# Altium integrated library Linear Technology PMIC-Switching Reg LT1074-LT8705.IntLib: 2252 symbols (part 21 of 124)
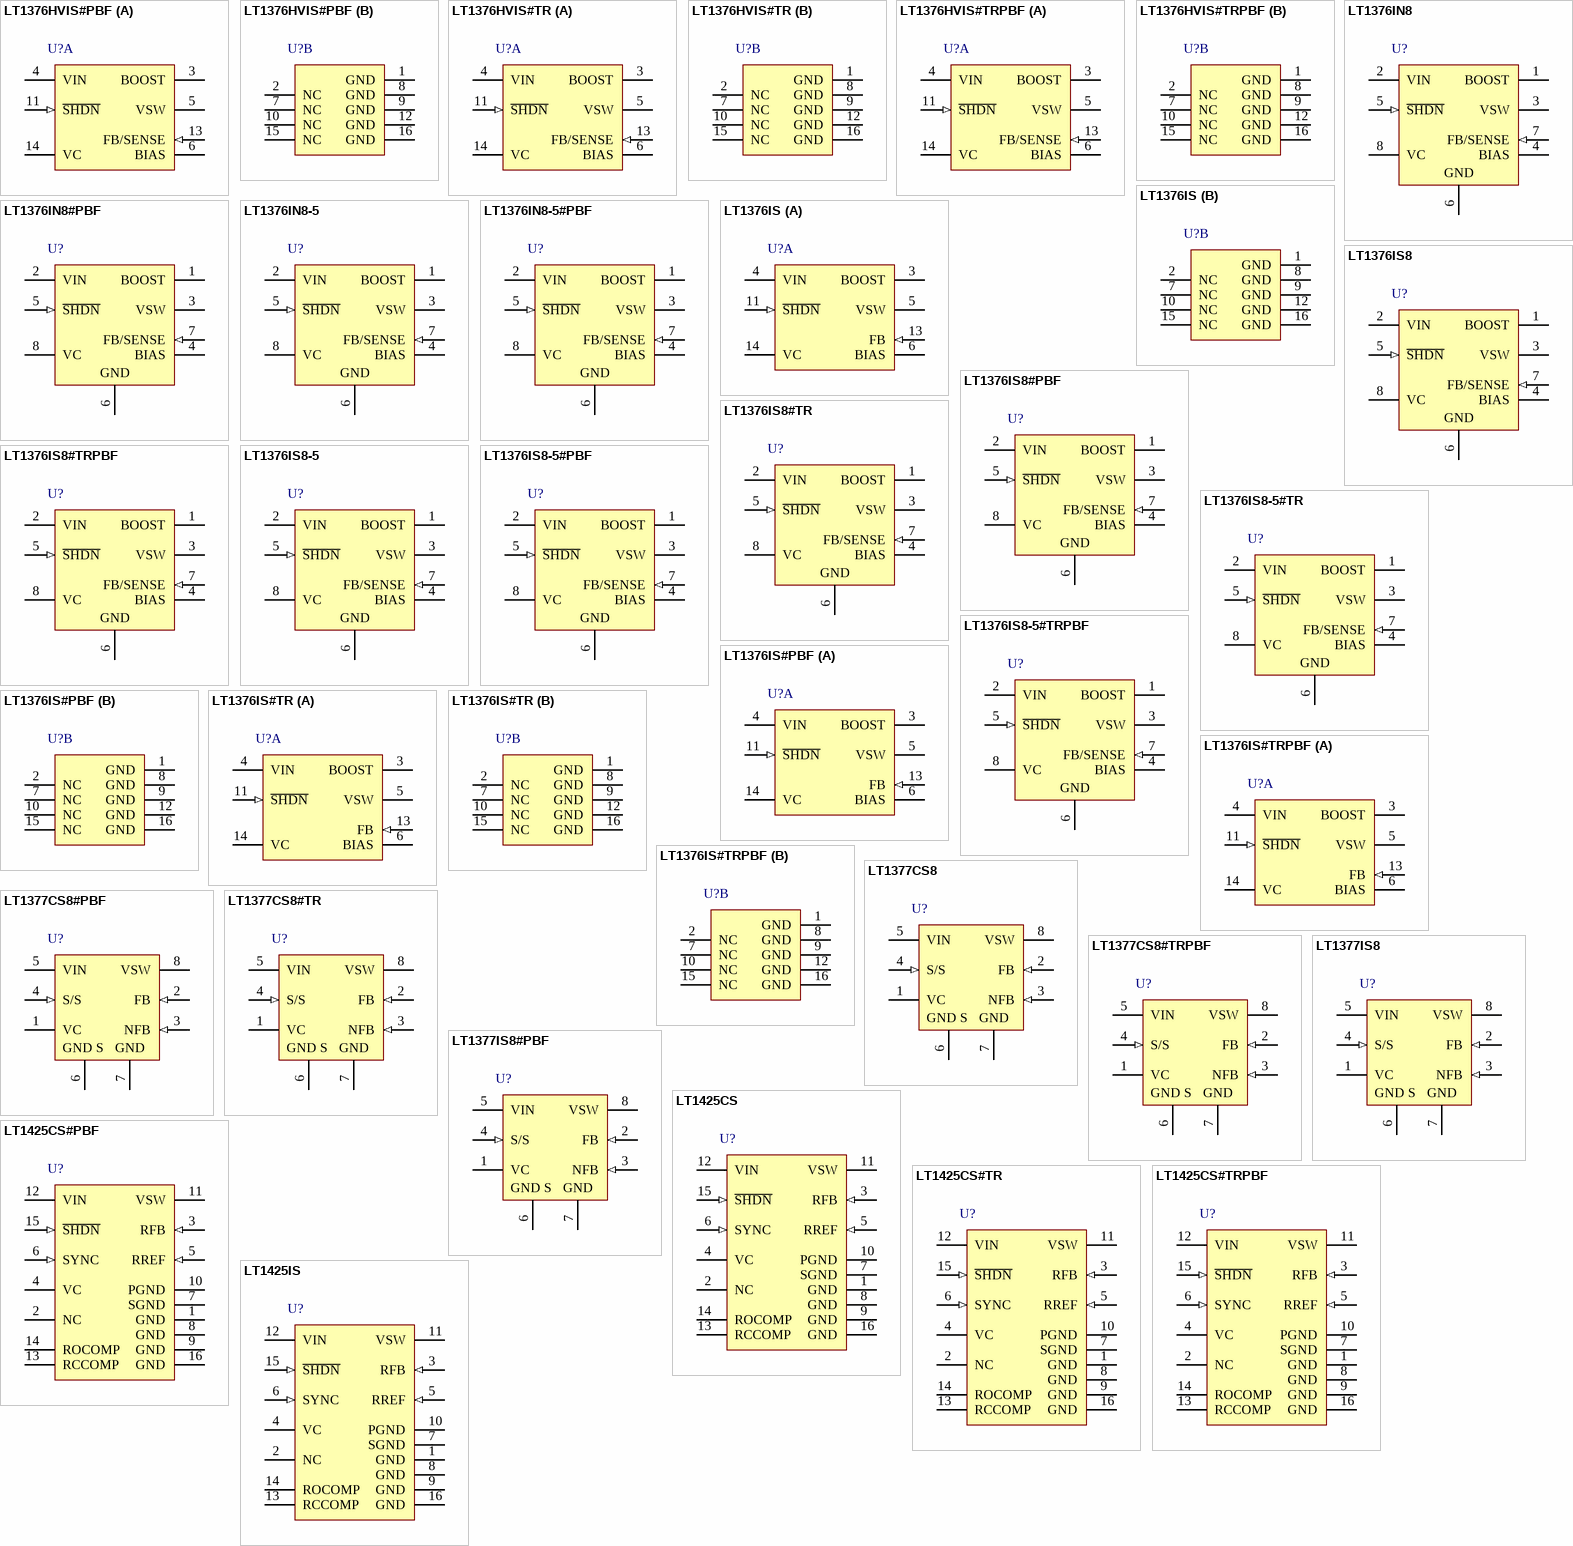
[diagram p91: symbols LT1376HVIS#PBF to LT1425IS]

## LT1376IS8-5#TRPBF
designator U?
1.5 A, 500 kHz Step-Down Switching Regulator, 8-pin SOIC (S8-8), -40 to 125 degC, Pb-Free, Tape and Reel; Manufacturer: Linear Technology; PartNumber: LT1376IS8-5#TRPBF; Number of Outputs: 1; PackageReference: S8-8; PackageDescription: 8-Pin Plastic Small Outline (Narrow .150 Inch), Body 4.9 x 3.9 mm, Pitch 1.27 mm; Supplier 1: Digi-Key; Supplier Part Number 1: LT1376IS8-5#TRPBF-ND; RoHS: TRUE
footprint LT-S8-8_N (SOIC, 8-Leads, Body 5x4mm, Pitch 1.27mm, IPC Medium Density)
footprint LT-S8-8_L (SOIC, 8-Leads, Body 5x4mm, Pitch 1.27mm, IPC High Density)
footprint LT-S8-8_M (SOIC, 8-Leads, Body 5x4mm, Pitch 1.27mm, IPC Low Density)
pins: 1 BOOST "The BOOST pin is used to provide a drive voltage, higher than the input voltage, to the internal bipolar NPN power switch. Without this added voltage, the typical switch voltage loss would be about 1.5V. The additional boost (See Datasheet)", 2 VIN (power) "This is the collector of the on-chip power NPN switch. This pin powers the internal circuitry and internal regulator when the BIAS pin is not present. At NPN switch on and off, high dl/dt edges occur on this pin. Keep the (See Datasheet)", 3 VSW (power) "The switch pin is the emitter of the on-chip power NPN switch. It is driven up to the input pin voltage during switch on time. Inductor current drives the switch pin negative during switch off time. Negative voltage is (See Datasheet)", 4 BIAS (power) "The BIAS pin is used to improve efficiency when operating at higher input voltages and light load current. Connecting this pin to the regulated output voltage forces most of the internal circuitry to draw its operating (See Datasheet)", 5 ~{SHDN} (in) "The shutdown pin is used to turn off the regulator and to reduce input drain current to a few microamperes. Actually, this pin has two separate thresholds, one at 2.38V to disable switching, and a second at 0.4V to force (See Datasheet)", 6 GND (power) "The GND pin connection needs consideration for two reasons. First, it acts as the reference for the regulated output, so load regulation will suffer if the “ground?end of the load is not at the same voltage as the (See Datasheet)", 7 FB/SENSE (in) "The feedback pin is used to set output voltage, using an external voltage divider that generates 2.42V at the pin with the desired output voltage. The fixed voltage (-5) parts have the divider included on the chip, and the (See Datasheet)", 8 VC "The VC pin is the output of the error amplifier and the input of the peak switch current comparator. It is normally used for frequency compensation, but can do double duty as a current clamp or control loop override. This (See Datasheet)"

## LT1376IS#PBF
designator U?
1.5 A, 500 kHz Step-Down Switching Regulator, 16-pin SOP (S-16), -40 to 125 degC, Pb-Free; Manufacturer: Linear Technology; PartNumber: LT1376IS#PBF; Number of Outputs: 1; PackageReference: S-16; PackageDescription: 16-Pin Plastic Small Outline, Body 9.9 x 3.9 mm, Pitch 1.27 mm; Supplier 1: Digi-Key; Supplier Part Number 1: LT1376IS#PBF-ND; RoHS: TRUE
footprint LT-S-16_N (SOP, 16-Leads, Body 10x4mm, Pitch 1.27mm, IPC Medium Density)
footprint LT-S-16_L (SOP, 16-Leads, Body 10x4mm, Pitch 1.27mm, IPC High Density)
footprint LT-S-16_M (SOP, 16-Leads, Body 10x4mm, Pitch 1.27mm, IPC Low Density)
part A pins: 3 BOOST "The BOOST pin is used to provide a drive voltage, higher than the input voltage, to the internal bipolar NPN power switch. Without this added voltage, the typical switch voltage loss would be about 1.5V. The additional boost (See Datasheet)", 4 VIN (power) "This is the collector of the on-chip power NPN switch. This pin powers the internal circuitry and internal regulator when the BIAS pin is not present. At NPN switch on and off, high dl/dt edges occur on this pin. Keep the (See Datasheet)", 5 VSW (power) "The switch pin is the emitter of the on-chip power NPN switch. It is driven up to the input pin voltage during switch on time. Inductor current drives the switch pin negative during switch off time. Negative voltage is (See Datasheet)", 6 BIAS (power) "The BIAS pin is used to improve efficiency when operating at higher input voltages and light load current. Connecting this pin to the regulated output voltage forces most of the internal circuitry to draw its operating (See Datasheet)", 11 ~{SHDN} (in) "The shutdown pin is used to turn off the regulator and to reduce input drain current to a few microamperes. Actually, this pin has two separate thresholds, one at 2.38V to disable switching, and a second at 0.4V to force (See Datasheet)", 13 FB (in) "The feedback pin is used to set output voltage, using an external voltage divider that generates 2.42V at the pin with the desired output voltage. The fixed voltage (-5) parts have the divider included on the chip, and the (See Datasheet)", 14 VC "The VC pin is the output of the error amplifier and the input of the peak switch current comparator. It is normally used for frequency compensation, but can do double duty as a current clamp or control loop override. This (See Datasheet)"
part B pins: 1 GND (power) "The GND pin connection needs consideration for two reasons. First, it acts as the reference for the regulated output, so load regulation will suffer if the “ground?end of the load is not at the same voltage as the (See Datasheet)", 2 NC, 7 NC, 8 GND (power) "The GND pin connection needs consideration for two reasons. First, it acts as the reference for the regulated output, so load regulation will suffer if the “ground?end of the load is not at the same voltage as the (See Datasheet)", 9 GND (power) "The GND pin connection needs consideration for two reasons. First, it acts as the reference for the regulated output, so load regulation will suffer if the “ground?end of the load is not at the same voltage as the (See Datasheet)", 10 NC, 12 GND (power) "The GND pin connection needs consideration for two reasons. First, it acts as the reference for the regulated output, so load regulation will suffer if the “ground?end of the load is not at the same voltage as the (See Datasheet)", 15 NC, 16 GND (power) "The GND pin connection needs consideration for two reasons. First, it acts as the reference for the regulated output, so load regulation will suffer if the “ground?end of the load is not at the same voltage as the (See Datasheet)"

## LT1376IS#TR
designator U?
1.5 A, 500 kHz Step-Down Switching Regulator, 16-pin SOP (S-16), -40 to 125 degC, Tape and Reel; Manufacturer: Linear Technology; PartNumber: LT1376IS#TR; Number of Outputs: 1; PackageReference: S-16; PackageDescription: 16-Pin Plastic Small Outline, Body 9.9 x 3.9 mm, Pitch 1.27 mm; Supplier 1: Digi-Key; Supplier Part Number 1: LT1376IS#TR-ND; RoHS: FALSE
footprint LT-S-16_N (SOP, 16-Leads, Body 10x4mm, Pitch 1.27mm, IPC Medium Density)
footprint LT-S-16_L (SOP, 16-Leads, Body 10x4mm, Pitch 1.27mm, IPC High Density)
footprint LT-S-16_M (SOP, 16-Leads, Body 10x4mm, Pitch 1.27mm, IPC Low Density)
part A pins: 3 BOOST "The BOOST pin is used to provide a drive voltage, higher than the input voltage, to the internal bipolar NPN power switch. Without this added voltage, the typical switch voltage loss would be about 1.5V. The additional boost (See Datasheet)", 4 VIN (power) "This is the collector of the on-chip power NPN switch. This pin powers the internal circuitry and internal regulator when the BIAS pin is not present. At NPN switch on and off, high dl/dt edges occur on this pin. Keep the (See Datasheet)", 5 VSW (power) "The switch pin is the emitter of the on-chip power NPN switch. It is driven up to the input pin voltage during switch on time. Inductor current drives the switch pin negative during switch off time. Negative voltage is (See Datasheet)", 6 BIAS (power) "The BIAS pin is used to improve efficiency when operating at higher input voltages and light load current. Connecting this pin to the regulated output voltage forces most of the internal circuitry to draw its operating (See Datasheet)", 11 ~{SHDN} (in) "The shutdown pin is used to turn off the regulator and to reduce input drain current to a few microamperes. Actually, this pin has two separate thresholds, one at 2.38V to disable switching, and a second at 0.4V to force (See Datasheet)", 13 FB (in) "The feedback pin is used to set output voltage, using an external voltage divider that generates 2.42V at the pin with the desired output voltage. The fixed voltage (-5) parts have the divider included on the chip, and the (See Datasheet)", 14 VC "The VC pin is the output of the error amplifier and the input of the peak switch current comparator. It is normally used for frequency compensation, but can do double duty as a current clamp or control loop override. This (See Datasheet)"
part B pins: 1 GND (power) "The GND pin connection needs consideration for two reasons. First, it acts as the reference for the regulated output, so load regulation will suffer if the “ground?end of the load is not at the same voltage as the (See Datasheet)", 2 NC, 7 NC, 8 GND (power) "The GND pin connection needs consideration for two reasons. First, it acts as the reference for the regulated output, so load regulation will suffer if the “ground?end of the load is not at the same voltage as the (See Datasheet)", 9 GND (power) "The GND pin connection needs consideration for two reasons. First, it acts as the reference for the regulated output, so load regulation will suffer if the “ground?end of the load is not at the same voltage as the (See Datasheet)", 10 NC, 12 GND (power) "The GND pin connection needs consideration for two reasons. First, it acts as the reference for the regulated output, so load regulation will suffer if the “ground?end of the load is not at the same voltage as the (See Datasheet)", 15 NC, 16 GND (power) "The GND pin connection needs consideration for two reasons. First, it acts as the reference for the regulated output, so load regulation will suffer if the “ground?end of the load is not at the same voltage as the (See Datasheet)"

## LT1376IS#TRPBF
designator U?
1.5 A, 500 kHz Step-Down Switching Regulator, 16-pin SOP (S-16), -40 to 125 degC, Pb-Free, Tape and Reel; Manufacturer: Linear Technology; PartNumber: LT1376IS#TRPBF; Number of Outputs: 1; PackageReference: S-16; PackageDescription: 16-Pin Plastic Small Outline, Body 9.9 x 3.9 mm, Pitch 1.27 mm; Supplier 1: Digi-Key; Supplier Part Number 1: LT1376IS#TRPBF-ND; RoHS: TRUE
footprint LT-S-16_N (SOP, 16-Leads, Body 10x4mm, Pitch 1.27mm, IPC Medium Density)
footprint LT-S-16_L (SOP, 16-Leads, Body 10x4mm, Pitch 1.27mm, IPC High Density)
footprint LT-S-16_M (SOP, 16-Leads, Body 10x4mm, Pitch 1.27mm, IPC Low Density)
part A pins: 3 BOOST "The BOOST pin is used to provide a drive voltage, higher than the input voltage, to the internal bipolar NPN power switch. Without this added voltage, the typical switch voltage loss would be about 1.5V. The additional boost (See Datasheet)", 4 VIN (power) "This is the collector of the on-chip power NPN switch. This pin powers the internal circuitry and internal regulator when the BIAS pin is not present. At NPN switch on and off, high dl/dt edges occur on this pin. Keep the (See Datasheet)", 5 VSW (power) "The switch pin is the emitter of the on-chip power NPN switch. It is driven up to the input pin voltage during switch on time. Inductor current drives the switch pin negative during switch off time. Negative voltage is (See Datasheet)", 6 BIAS (power) "The BIAS pin is used to improve efficiency when operating at higher input voltages and light load current. Connecting this pin to the regulated output voltage forces most of the internal circuitry to draw its operating (See Datasheet)", 11 ~{SHDN} (in) "The shutdown pin is used to turn off the regulator and to reduce input drain current to a few microamperes. Actually, this pin has two separate thresholds, one at 2.38V to disable switching, and a second at 0.4V to force (See Datasheet)", 13 FB (in) "The feedback pin is used to set output voltage, using an external voltage divider that generates 2.42V at the pin with the desired output voltage. The fixed voltage (-5) parts have the divider included on the chip, and the (See Datasheet)", 14 VC "The VC pin is the output of the error amplifier and the input of the peak switch current comparator. It is normally used for frequency compensation, but can do double duty as a current clamp or control loop override. This (See Datasheet)"
part B pins: 1 GND (power) "The GND pin connection needs consideration for two reasons. First, it acts as the reference for the regulated output, so load regulation will suffer if the “ground?end of the load is not at the same voltage as the (See Datasheet)", 2 NC, 7 NC, 8 GND (power) "The GND pin connection needs consideration for two reasons. First, it acts as the reference for the regulated output, so load regulation will suffer if the “ground?end of the load is not at the same voltage as the (See Datasheet)", 9 GND (power) "The GND pin connection needs consideration for two reasons. First, it acts as the reference for the regulated output, so load regulation will suffer if the “ground?end of the load is not at the same voltage as the (See Datasheet)", 10 NC, 12 GND (power) "The GND pin connection needs consideration for two reasons. First, it acts as the reference for the regulated output, so load regulation will suffer if the “ground?end of the load is not at the same voltage as the (See Datasheet)", 15 NC, 16 GND (power) "The GND pin connection needs consideration for two reasons. First, it acts as the reference for the regulated output, so load regulation will suffer if the “ground?end of the load is not at the same voltage as the (See Datasheet)"

## LT1377CS8
designator U?
1 MHz High Efficiency 1.5 A Switching Regulator, 8-pin SOIC (S8-8), 0 to 125 degC; Manufacturer: Linear Technology; PartNumber: LT1377CS8; Number of Outputs: 1; PackageReference: S8-8; PackageDescription: 8-Pin Plastic Small Outline (Narrow .150 Inch), Body 4.9 x 3.9 mm, Pitch 1.27 mm; Supplier 1: Digi-Key; Supplier Part Number 1: LT1377CS8-ND; RoHS: FALSE
footprint LT-S8-8_N (SOIC, 8-Leads, Body 5x4mm, Pitch 1.27mm, IPC Medium Density)
footprint LT-S8-8_L (SOIC, 8-Leads, Body 5x4mm, Pitch 1.27mm, IPC High Density)
footprint LT-S8-8_M (SOIC, 8-Leads, Body 5x4mm, Pitch 1.27mm, IPC Low Density)
pins: 1 VC "The compensation pin is used for frequency compensation, current limiting and soft start. It is the output of the error amplifier and the input of the current comparator. Loop frequency compensation can be performed with an (See Datasheet)", 2 FB (in) "The feedback pin is used for positive output voltage sensing and oscillator frequency shifting. It is the inverting input to the error amplifier. The noninverting input of this amplifier is internally tied to a 1.245V (See Datasheet)", 3 NFB (in), 4 S/S (in) "Shutdown and Synchronization Pin. The S/S pin is logic level compatible. Shutdown is active low and the shutdown threshold is typically 1.3V. For normal operation, pull the S/S pin high, tie it to VIN or leave it floating. (See Datasheet)", 5 VIN (power) "Bypass input supply pin with 10uF or more. The part goes into undervoltage lockout when VIN drops below 2.5V. Undervoltage lockout stops switching and pulls the VC pin low.", 6 GND S (power) "The ground sense pin is a ¡°clean¡± ground. The internal reference, error amplifier and negative feedback amplifier are referred to the ground sense pin. Connect it to ground. Keep the ground path connection to the out(See Datasheet)", 7 GND (power) "The ground pin is the emitter connection of the power switch and has large currents flowing through it. It should be connected directly to a good quality ground plane.", 8 VSW (power) "The switch pin is the collector of the power switch and has large currents flowing through it. Keep the traces to the switching components as short as possible to minimize radiation and voltage spikes."

## LT1377CS8#PBF
designator U?
1 MHz High Efficiency 1.5 A Switching Regulator, 8-pin SOIC (S8-8), 0 to 125 degC, Pb-Free; Manufacturer: Linear Technology; PartNumber: LT1377CS8#PBF; Number of Outputs: 1; PackageReference: S8-8; PackageDescription: 8-Pin Plastic Small Outline (Narrow .150 Inch), Body 4.9 x 3.9 mm, Pitch 1.27 mm; Supplier 1: Digi-Key; Supplier Part Number 1: LT1377CS8#PBF-ND; RoHS: TRUE
footprint LT-S8-8_N (SOIC, 8-Leads, Body 5x4mm, Pitch 1.27mm, IPC Medium Density)
footprint LT-S8-8_L (SOIC, 8-Leads, Body 5x4mm, Pitch 1.27mm, IPC High Density)
footprint LT-S8-8_M (SOIC, 8-Leads, Body 5x4mm, Pitch 1.27mm, IPC Low Density)
pins: 1 VC "The compensation pin is used for frequency compensation, current limiting and soft start. It is the output of the error amplifier and the input of the current comparator. Loop frequency compensation can be performed with an (See Datasheet)", 2 FB (in) "The feedback pin is used for positive output voltage sensing and oscillator frequency shifting. It is the inverting input to the error amplifier. The noninverting input of this amplifier is internally tied to a 1.245V (See Datasheet)", 3 NFB (in), 4 S/S (in) "Shutdown and Synchronization Pin. The S/S pin is logic level compatible. Shutdown is active low and the shutdown threshold is typically 1.3V. For normal operation, pull the S/S pin high, tie it to VIN or leave it floating. (See Datasheet)", 5 VIN (power) "Bypass input supply pin with 10uF or more. The part goes into undervoltage lockout when VIN drops below 2.5V. Undervoltage lockout stops switching and pulls the VC pin low.", 6 GND S (power) "The ground sense pin is a ¡°clean¡± ground. The internal reference, error amplifier and negative feedback amplifier are referred to the ground sense pin. Connect it to ground. Keep the ground path connection to the out(See Datasheet)", 7 GND (power) "The ground pin is the emitter connection of the power switch and has large currents flowing through it. It should be connected directly to a good quality ground plane.", 8 VSW (power) "The switch pin is the collector of the power switch and has large currents flowing through it. Keep the traces to the switching components as short as possible to minimize radiation and voltage spikes."

## LT1377CS8#TR
designator U?
1 MHz High Efficiency 1.5 A Switching Regulator, 8-pin SOIC (S8-8), 0 to 125 degC, Tape and Reel; Manufacturer: Linear Technology; PartNumber: LT1377CS8#TR; Number of Outputs: 1; PackageReference: S8-8; PackageDescription: 8-Pin Plastic Small Outline (Narrow .150 Inch), Body 4.9 x 3.9 mm, Pitch 1.27 mm; Supplier 1: Digi-Key; Supplier Part Number 1: LT1377CS8#TR-ND; RoHS: FALSE
footprint LT-S8-8_N (SOIC, 8-Leads, Body 5x4mm, Pitch 1.27mm, IPC Medium Density)
footprint LT-S8-8_L (SOIC, 8-Leads, Body 5x4mm, Pitch 1.27mm, IPC High Density)
footprint LT-S8-8_M (SOIC, 8-Leads, Body 5x4mm, Pitch 1.27mm, IPC Low Density)
pins: 1 VC "The compensation pin is used for frequency compensation, current limiting and soft start. It is the output of the error amplifier and the input of the current comparator. Loop frequency compensation can be performed with an (See Datasheet)", 2 FB (in) "The feedback pin is used for positive output voltage sensing and oscillator frequency shifting. It is the inverting input to the error amplifier. The noninverting input of this amplifier is internally tied to a 1.245V (See Datasheet)", 3 NFB (in), 4 S/S (in) "Shutdown and Synchronization Pin. The S/S pin is logic level compatible. Shutdown is active low and the shutdown threshold is typically 1.3V. For normal operation, pull the S/S pin high, tie it to VIN or leave it floating. (See Datasheet)", 5 VIN (power) "Bypass input supply pin with 10uF or more. The part goes into undervoltage lockout when VIN drops below 2.5V. Undervoltage lockout stops switching and pulls the VC pin low.", 6 GND S (power) "The ground sense pin is a ¡°clean¡± ground. The internal reference, error amplifier and negative feedback amplifier are referred to the ground sense pin. Connect it to ground. Keep the ground path connection to the out(See Datasheet)", 7 GND (power) "The ground pin is the emitter connection of the power switch and has large currents flowing through it. It should be connected directly to a good quality ground plane.", 8 VSW (power) "The switch pin is the collector of the power switch and has large currents flowing through it. Keep the traces to the switching components as short as possible to minimize radiation and voltage spikes."

## LT1377CS8#TRPBF
designator U?
1 MHz High Efficiency 1.5 A Switching Regulator, 8-pin SOIC (S8-8), 0 to 125 degC, Pb-Free, Tape and Reel; Manufacturer: Linear Technology; PartNumber: LT1377CS8#TRPBF; Number of Outputs: 1; PackageReference: S8-8; PackageDescription: 8-Pin Plastic Small Outline (Narrow .150 Inch), Body 4.9 x 3.9 mm, Pitch 1.27 mm; Supplier 1: Digi-Key; Supplier Part Number 1: LT1377CS8#TRPBF-ND; RoHS: TRUE
footprint LT-S8-8_N (SOIC, 8-Leads, Body 5x4mm, Pitch 1.27mm, IPC Medium Density)
footprint LT-S8-8_L (SOIC, 8-Leads, Body 5x4mm, Pitch 1.27mm, IPC High Density)
footprint LT-S8-8_M (SOIC, 8-Leads, Body 5x4mm, Pitch 1.27mm, IPC Low Density)
pins: 1 VC "The compensation pin is used for frequency compensation, current limiting and soft start. It is the output of the error amplifier and the input of the current comparator. Loop frequency compensation can be performed with an (See Datasheet)", 2 FB (in) "The feedback pin is used for positive output voltage sensing and oscillator frequency shifting. It is the inverting input to the error amplifier. The noninverting input of this amplifier is internally tied to a 1.245V (See Datasheet)", 3 NFB (in), 4 S/S (in) "Shutdown and Synchronization Pin. The S/S pin is logic level compatible. Shutdown is active low and the shutdown threshold is typically 1.3V. For normal operation, pull the S/S pin high, tie it to VIN or leave it floating. (See Datasheet)", 5 VIN (power) "Bypass input supply pin with 10uF or more. The part goes into undervoltage lockout when VIN drops below 2.5V. Undervoltage lockout stops switching and pulls the VC pin low.", 6 GND S (power) "The ground sense pin is a ¡°clean¡± ground. The internal reference, error amplifier and negative feedback amplifier are referred to the ground sense pin. Connect it to ground. Keep the ground path connection to the out(See Datasheet)", 7 GND (power) "The ground pin is the emitter connection of the power switch and has large currents flowing through it. It should be connected directly to a good quality ground plane.", 8 VSW (power) "The switch pin is the collector of the power switch and has large currents flowing through it. Keep the traces to the switching components as short as possible to minimize radiation and voltage spikes."

## LT1377IS8
designator U?
1 MHz High Efficiency 1.5 A Switching Regulator, 8-pin SOIC (S8-8), -40 to 125 degC; Manufacturer: Linear Technology; PartNumber: LT1377IS8; Number of Outputs: 1; PackageReference: S8-8; PackageDescription: 8-Pin Plastic Small Outline (Narrow .150 Inch), Body 4.9 x 3.9 mm, Pitch 1.27 mm; Supplier 1: Digi-Key; Supplier Part Number 1: LT1377IS8-ND; RoHS: FALSE
footprint LT-S8-8_N (SOIC, 8-Leads, Body 5x4mm, Pitch 1.27mm, IPC Medium Density)
footprint LT-S8-8_L (SOIC, 8-Leads, Body 5x4mm, Pitch 1.27mm, IPC High Density)
footprint LT-S8-8_M (SOIC, 8-Leads, Body 5x4mm, Pitch 1.27mm, IPC Low Density)
pins: 1 VC "The compensation pin is used for frequency compensation, current limiting and soft start. It is the output of the error amplifier and the input of the current comparator. Loop frequency compensation can be performed with an (See Datasheet)", 2 FB (in) "The feedback pin is used for positive output voltage sensing and oscillator frequency shifting. It is the inverting input to the error amplifier. The noninverting input of this amplifier is internally tied to a 1.245V (See Datasheet)", 3 NFB (in), 4 S/S (in) "Shutdown and Synchronization Pin. The S/S pin is logic level compatible. Shutdown is active low and the shutdown threshold is typically 1.3V. For normal operation, pull the S/S pin high, tie it to VIN or leave it floating. (See Datasheet)", 5 VIN (power) "Bypass input supply pin with 10uF or more. The part goes into undervoltage lockout when VIN drops below 2.5V. Undervoltage lockout stops switching and pulls the VC pin low.", 6 GND S (power) "The ground sense pin is a ¡°clean¡± ground. The internal reference, error amplifier and negative feedback amplifier are referred to the ground sense pin. Connect it to ground. Keep the ground path connection to the out(See Datasheet)", 7 GND (power) "The ground pin is the emitter connection of the power switch and has large currents flowing through it. It should be connected directly to a good quality ground plane.", 8 VSW (power) "The switch pin is the collector of the power switch and has large currents flowing through it. Keep the traces to the switching components as short as possible to minimize radiation and voltage spikes."

## LT1377IS8#PBF
designator U?
1 MHz High Efficiency 1.5 A Switching Regulator, 8-pin SOIC (S8-8), -40 to 125 degC, Pb-Free; Manufacturer: Linear Technology; PartNumber: LT1377IS8#PBF; Number of Outputs: 1; PackageReference: S8-8; PackageDescription: 8-Pin Plastic Small Outline (Narrow .150 Inch), Body 4.9 x 3.9 mm, Pitch 1.27 mm; Supplier 1: Digi-Key; Supplier Part Number 1: LT1377IS8#PBF-ND; RoHS: TRUE
footprint LT-S8-8_N (SOIC, 8-Leads, Body 5x4mm, Pitch 1.27mm, IPC Medium Density)
footprint LT-S8-8_L (SOIC, 8-Leads, Body 5x4mm, Pitch 1.27mm, IPC High Density)
footprint LT-S8-8_M (SOIC, 8-Leads, Body 5x4mm, Pitch 1.27mm, IPC Low Density)
pins: 1 VC "The compensation pin is used for frequency compensation, current limiting and soft start. It is the output of the error amplifier and the input of the current comparator. Loop frequency compensation can be performed with an (See Datasheet)", 2 FB (in) "The feedback pin is used for positive output voltage sensing and oscillator frequency shifting. It is the inverting input to the error amplifier. The noninverting input of this amplifier is internally tied to a 1.245V (See Datasheet)", 3 NFB (in), 4 S/S (in) "Shutdown and Synchronization Pin. The S/S pin is logic level compatible. Shutdown is active low and the shutdown threshold is typically 1.3V. For normal operation, pull the S/S pin high, tie it to VIN or leave it floating. (See Datasheet)", 5 VIN (power) "Bypass input supply pin with 10uF or more. The part goes into undervoltage lockout when VIN drops below 2.5V. Undervoltage lockout stops switching and pulls the VC pin low.", 6 GND S (power) "The ground sense pin is a ¡°clean¡± ground. The internal reference, error amplifier and negative feedback amplifier are referred to the ground sense pin. Connect it to ground. Keep the ground path connection to the out(See Datasheet)", 7 GND (power) "The ground pin is the emitter connection of the power switch and has large currents flowing through it. It should be connected directly to a good quality ground plane.", 8 VSW (power) "The switch pin is the collector of the power switch and has large currents flowing through it. Keep the traces to the switching components as short as possible to minimize radiation and voltage spikes."

## LT1425CS
designator U?
Isolated Flyback Switching Regulator, 16-pin SOP (S-16), 0 to 100 degC, Tape and Reel; Manufacturer: Linear Technology; PartNumber: LT1425CS; Number of Outputs: 1; PackageReference: S-16; PackageDescription: 16-Pin Plastic Small Outline, Body 9.9 x 3.9 mm, Pitch 1.27 mm; Supplier 1: Digi-Key; Supplier Part Number 1: LT1425CS-ND; RoHS: FALSE
footprint LT-S-16_N (SOP, 16-Leads, Body 10x4mm, Pitch 1.27mm, IPC Medium Density)
footprint LT-S-16_L (SOP, 16-Leads, Body 10x4mm, Pitch 1.27mm, IPC High Density)
footprint LT-S-16_M (SOP, 16-Leads, Body 10x4mm, Pitch 1.27mm, IPC Low Density)
pins: 1 GND (power) "Ground. These pins connect to the substrate of the die and are separate from the power ground and signal ground. They should connect directly to a good quality ground plane.", 2 NC, 3 RFB (in) "Input Pin for External "Feedback" Resistor Connected to Transformer Primary (VSW). The ratio of this resistor to the RREF resistor, times the internal bandgap (VBG) reference, is the primary determinant of the out(See Datasheet)", 4 VC "Control Voltage. This pin is the output of the feedback amplifier and the input of the current comparator. Frequency compensation of the overall loop is effected by placing a capacitor between this node and ground.", 5 RREF (in) "Input Pin for External Ground-Referred "Reference" Resistor. This resistor should be in the range of 3k, but for convenience, need not be this value precisely. See Applications Information for more details.", 6 SYNC (in) "Pin to Synchronize Internal Oscillator to External Frequency Reference. It is directly logic compatible and can be driven with any signal between 10% and 90% duty cycle. If unused, this pin can be left floating; however, for (See Datasheet)", 7 SGND (power) "Signal Ground. This pin is a clean ground. The internal reference and feedback amplifier are referred to it. Keep the ground path connection to RREF and the VC compensation capacitor free of large ground currents.", 8 GND (power) "Ground. These pins connect to the substrate of the die and are separate from the power ground and signal ground. They should connect directly to a good quality ground plane.", 9 GND (power) "Ground. These pins connect to the substrate of the die and are separate from the power ground and signal ground. They should connect directly to a good quality ground plane.", 10 PGND (power) "Power Ground. This pin is the emitter of the power switch device and has large currents flowing through it. It should be connected directly to a good quality ground plane.", 11 VSW (power) "This is the collector node of the output switch and has large currents flowing through it. Keep the traces to the switching components as short as possible to minimize electromagnetic radiation and voltage spikes.", 12 VIN (power) "Supply Voltage. Bypass input supply pin with 10uF or more. The part goes into undervoltage lockout when VIN drops below 2.8V. Undervoltage lockout stops switching and pulls the VC pin low.", 13 RCCOMP "Pin for the External Filter Capacitor for Load Compensation Function. A common 0.1uF ceramic capacitor will suffice for most applications. See Applications Information for further details.", 14 ROCOMP "Input Pin for Optional External Load Compensation Resistor. Use of this pin allows nominal compensation for nonzero output impedance in the power transformer secondary circuit, including secondary winding impedance, output (See Datasheet)", 15 ~{SHDN} (in) "Shutdown. This pin is used to turn off the regulator and reduce VIN input current to a few tens of microamperes. The S\H\D\N\ pin can be left floating when unused.", 16 GND (power) "Ground. These pins connect to the substrate of the die and are separate from the power ground and signal ground. They should connect directly to a good quality ground plane."

## LT1425CS#PBF
designator U?
Isolated Flyback Switching Regulator, 16-pin SOP (S-16), 0 to 100 degC, Pb-Free; Manufacturer: Linear Technology; PartNumber: LT1425CS#PBF; Number of Outputs: 1; PackageReference: S-16; PackageDescription: 16-Pin Plastic Small Outline, Body 9.9 x 3.9 mm, Pitch 1.27 mm; Supplier 1: Digi-Key; Supplier Part Number 1: LT1425CS#PBF-ND; RoHS: TRUE
footprint LT-S-16_N (SOP, 16-Leads, Body 10x4mm, Pitch 1.27mm, IPC Medium Density)
footprint LT-S-16_L (SOP, 16-Leads, Body 10x4mm, Pitch 1.27mm, IPC High Density)
footprint LT-S-16_M (SOP, 16-Leads, Body 10x4mm, Pitch 1.27mm, IPC Low Density)
pins: 1 GND (power) "Ground. These pins connect to the substrate of the die and are separate from the power ground and signal ground. They should connect directly to a good quality ground plane.", 2 NC, 3 RFB (in) "Input Pin for External "Feedback" Resistor Connected to Transformer Primary (VSW). The ratio of this resistor to the RREF resistor, times the internal bandgap (VBG) reference, is the primary determinant of the out(See Datasheet)", 4 VC "Control Voltage. This pin is the output of the feedback amplifier and the input of the current comparator. Frequency compensation of the overall loop is effected by placing a capacitor between this node and ground.", 5 RREF (in) "Input Pin for External Ground-Referred "Reference" Resistor. This resistor should be in the range of 3k, but for convenience, need not be this value precisely. See Applications Information for more details.", 6 SYNC (in) "Pin to Synchronize Internal Oscillator to External Frequency Reference. It is directly logic compatible and can be driven with any signal between 10% and 90% duty cycle. If unused, this pin can be left floating; however, for (See Datasheet)", 7 SGND (power) "Signal Ground. This pin is a clean ground. The internal reference and feedback amplifier are referred to it. Keep the ground path connection to RREF and the VC compensation capacitor free of large ground currents.", 8 GND (power) "Ground. These pins connect to the substrate of the die and are separate from the power ground and signal ground. They should connect directly to a good quality ground plane.", 9 GND (power) "Ground. These pins connect to the substrate of the die and are separate from the power ground and signal ground. They should connect directly to a good quality ground plane.", 10 PGND (power) "Power Ground. This pin is the emitter of the power switch device and has large currents flowing through it. It should be connected directly to a good quality ground plane.", 11 VSW (power) "This is the collector node of the output switch and has large currents flowing through it. Keep the traces to the switching components as short as possible to minimize electromagnetic radiation and voltage spikes.", 12 VIN (power) "Supply Voltage. Bypass input supply pin with 10uF or more. The part goes into undervoltage lockout when VIN drops below 2.8V. Undervoltage lockout stops switching and pulls the VC pin low.", 13 RCCOMP "Pin for the External Filter Capacitor for Load Compensation Function. A common 0.1uF ceramic capacitor will suffice for most applications. See Applications Information for further details.", 14 ROCOMP "Input Pin for Optional External Load Compensation Resistor. Use of this pin allows nominal compensation for nonzero output impedance in the power transformer secondary circuit, including secondary winding impedance, output (See Datasheet)", 15 ~{SHDN} (in) "Shutdown. This pin is used to turn off the regulator and reduce VIN input current to a few tens of microamperes. The S\H\D\N\ pin can be left floating when unused.", 16 GND (power) "Ground. These pins connect to the substrate of the die and are separate from the power ground and signal ground. They should connect directly to a good quality ground plane."

## LT1425CS#TR
designator U?
Isolated Flyback Switching Regulator, 16-pin SOP (S-16), 0 to 100 degC, Tape and Reel; Manufacturer: Linear Technology; PartNumber: LT1425CS#TR; Number of Outputs: 1; PackageReference: S-16; PackageDescription: 16-Pin Plastic Small Outline, Body 9.9 x 3.9 mm, Pitch 1.27 mm; Supplier 1: Digi-Key; Supplier Part Number 1: LT1425CS#TR-ND; RoHS: FALSE
footprint LT-S-16_N (SOP, 16-Leads, Body 10x4mm, Pitch 1.27mm, IPC Medium Density)
footprint LT-S-16_L (SOP, 16-Leads, Body 10x4mm, Pitch 1.27mm, IPC High Density)
footprint LT-S-16_M (SOP, 16-Leads, Body 10x4mm, Pitch 1.27mm, IPC Low Density)
pins: 1 GND (power) "Ground. These pins connect to the substrate of the die and are separate from the power ground and signal ground. They should connect directly to a good quality ground plane.", 2 NC, 3 RFB (in) "Input Pin for External "Feedback" Resistor Connected to Transformer Primary (VSW). The ratio of this resistor to the RREF resistor, times the internal bandgap (VBG) reference, is the primary determinant of the out(See Datasheet)", 4 VC "Control Voltage. This pin is the output of the feedback amplifier and the input of the current comparator. Frequency compensation of the overall loop is effected by placing a capacitor between this node and ground.", 5 RREF (in) "Input Pin for External Ground-Referred "Reference" Resistor. This resistor should be in the range of 3k, but for convenience, need not be this value precisely. See Applications Information for more details.", 6 SYNC (in) "Pin to Synchronize Internal Oscillator to External Frequency Reference. It is directly logic compatible and can be driven with any signal between 10% and 90% duty cycle. If unused, this pin can be left floating; however, for (See Datasheet)", 7 SGND (power) "Signal Ground. This pin is a clean ground. The internal reference and feedback amplifier are referred to it. Keep the ground path connection to RREF and the VC compensation capacitor free of large ground currents.", 8 GND (power) "Ground. These pins connect to the substrate of the die and are separate from the power ground and signal ground. They should connect directly to a good quality ground plane.", 9 GND (power) "Ground. These pins connect to the substrate of the die and are separate from the power ground and signal ground. They should connect directly to a good quality ground plane.", 10 PGND (power) "Power Ground. This pin is the emitter of the power switch device and has large currents flowing through it. It should be connected directly to a good quality ground plane.", 11 VSW (power) "This is the collector node of the output switch and has large currents flowing through it. Keep the traces to the switching components as short as possible to minimize electromagnetic radiation and voltage spikes.", 12 VIN (power) "Supply Voltage. Bypass input supply pin with 10uF or more. The part goes into undervoltage lockout when VIN drops below 2.8V. Undervoltage lockout stops switching and pulls the VC pin low.", 13 RCCOMP "Pin for the External Filter Capacitor for Load Compensation Function. A common 0.1uF ceramic capacitor will suffice for most applications. See Applications Information for further details.", 14 ROCOMP "Input Pin for Optional External Load Compensation Resistor. Use of this pin allows nominal compensation for nonzero output impedance in the power transformer secondary circuit, including secondary winding impedance, output (See Datasheet)", 15 ~{SHDN} (in) "Shutdown. This pin is used to turn off the regulator and reduce VIN input current to a few tens of microamperes. The S\H\D\N\ pin can be left floating when unused.", 16 GND (power) "Ground. These pins connect to the substrate of the die and are separate from the power ground and signal ground. They should connect directly to a good quality ground plane."

## LT1425CS#TRPBF
designator U?
Isolated Flyback Switching Regulator, 16-pin SOP (S-16), 0 to 100 degC, Pb-Free, Tape and Reel; Manufacturer: Linear Technology; PartNumber: LT1425CS#TRPBF; Number of Outputs: 1; PackageReference: S-16; PackageDescription: 16-Pin Plastic Small Outline, Body 9.9 x 3.9 mm, Pitch 1.27 mm; Supplier 1: Digi-Key; Supplier Part Number 1: LT1425CS#TRPBF-ND; RoHS: TRUE
footprint LT-S-16_N (SOP, 16-Leads, Body 10x4mm, Pitch 1.27mm, IPC Medium Density)
footprint LT-S-16_L (SOP, 16-Leads, Body 10x4mm, Pitch 1.27mm, IPC High Density)
footprint LT-S-16_M (SOP, 16-Leads, Body 10x4mm, Pitch 1.27mm, IPC Low Density)
pins: 1 GND (power) "Ground. These pins connect to the substrate of the die and are separate from the power ground and signal ground. They should connect directly to a good quality ground plane.", 2 NC, 3 RFB (in) "Input Pin for External "Feedback" Resistor Connected to Transformer Primary (VSW). The ratio of this resistor to the RREF resistor, times the internal bandgap (VBG) reference, is the primary determinant of the out(See Datasheet)", 4 VC "Control Voltage. This pin is the output of the feedback amplifier and the input of the current comparator. Frequency compensation of the overall loop is effected by placing a capacitor between this node and ground.", 5 RREF (in) "Input Pin for External Ground-Referred "Reference" Resistor. This resistor should be in the range of 3k, but for convenience, need not be this value precisely. See Applications Information for more details.", 6 SYNC (in) "Pin to Synchronize Internal Oscillator to External Frequency Reference. It is directly logic compatible and can be driven with any signal between 10% and 90% duty cycle. If unused, this pin can be left floating; however, for (See Datasheet)", 7 SGND (power) "Signal Ground. This pin is a clean ground. The internal reference and feedback amplifier are referred to it. Keep the ground path connection to RREF and the VC compensation capacitor free of large ground currents.", 8 GND (power) "Ground. These pins connect to the substrate of the die and are separate from the power ground and signal ground. They should connect directly to a good quality ground plane.", 9 GND (power) "Ground. These pins connect to the substrate of the die and are separate from the power ground and signal ground. They should connect directly to a good quality ground plane.", 10 PGND (power) "Power Ground. This pin is the emitter of the power switch device and has large currents flowing through it. It should be connected directly to a good quality ground plane.", 11 VSW (power) "This is the collector node of the output switch and has large currents flowing through it. Keep the traces to the switching components as short as possible to minimize electromagnetic radiation and voltage spikes.", 12 VIN (power) "Supply Voltage. Bypass input supply pin with 10uF or more. The part goes into undervoltage lockout when VIN drops below 2.8V. Undervoltage lockout stops switching and pulls the VC pin low.", 13 RCCOMP "Pin for the External Filter Capacitor for Load Compensation Function. A common 0.1uF ceramic capacitor will suffice for most applications. See Applications Information for further details.", 14 ROCOMP "Input Pin for Optional External Load Compensation Resistor. Use of this pin allows nominal compensation for nonzero output impedance in the power transformer secondary circuit, including secondary winding impedance, output (See Datasheet)", 15 ~{SHDN} (in) "Shutdown. This pin is used to turn off the regulator and reduce VIN input current to a few tens of microamperes. The S\H\D\N\ pin can be left floating when unused.", 16 GND (power) "Ground. These pins connect to the substrate of the die and are separate from the power ground and signal ground. They should connect directly to a good quality ground plane."

## LT1425IS
designator U?
Isolated Flyback Switching Regulator, 16-pin SOP (S-16), -40 to 100 degC; Manufacturer: Linear Technology; PartNumber: LT1425IS; Number of Outputs: 1; PackageReference: S-16; PackageDescription: 16-Pin Plastic Small Outline, Body 9.9 x 3.9 mm, Pitch 1.27 mm; Supplier 1: Digi-Key; Supplier Part Number 1: LT1425IS-ND; RoHS: FALSE
footprint LT-S-16_N (SOP, 16-Leads, Body 10x4mm, Pitch 1.27mm, IPC Medium Density)
footprint LT-S-16_L (SOP, 16-Leads, Body 10x4mm, Pitch 1.27mm, IPC High Density)
footprint LT-S-16_M (SOP, 16-Leads, Body 10x4mm, Pitch 1.27mm, IPC Low Density)
pins: 1 GND (power) "Ground. These pins connect to the substrate of the die and are separate from the power ground and signal ground. They should connect directly to a good quality ground plane.", 2 NC, 3 RFB (in) "Input Pin for External "Feedback" Resistor Connected to Transformer Primary (VSW). The ratio of this resistor to the RREF resistor, times the internal bandgap (VBG) reference, is the primary determinant of the out(See Datasheet)", 4 VC "Control Voltage. This pin is the output of the feedback amplifier and the input of the current comparator. Frequency compensation of the overall loop is effected by placing a capacitor between this node and ground.", 5 RREF (in) "Input Pin for External Ground-Referred "Reference" Resistor. This resistor should be in the range of 3k, but for convenience, need not be this value precisely. See Applications Information for more details.", 6 SYNC (in) "Pin to Synchronize Internal Oscillator to External Frequency Reference. It is directly logic compatible and can be driven with any signal between 10% and 90% duty cycle. If unused, this pin can be left floating; however, for (See Datasheet)", 7 SGND (power) "Signal Ground. This pin is a clean ground. The internal reference and feedback amplifier are referred to it. Keep the ground path connection to RREF and the VC compensation capacitor free of large ground currents.", 8 GND (power) "Ground. These pins connect to the substrate of the die and are separate from the power ground and signal ground. They should connect directly to a good quality ground plane.", 9 GND (power) "Ground. These pins connect to the substrate of the die and are separate from the power ground and signal ground. They should connect directly to a good quality ground plane.", 10 PGND (power) "Power Ground. This pin is the emitter of the power switch device and has large currents flowing through it. It should be connected directly to a good quality ground plane.", 11 VSW (power) "This is the collector node of the output switch and has large currents flowing through it. Keep the traces to the switching components as short as possible to minimize electromagnetic radiation and voltage spikes.", 12 VIN (power) "Supply Voltage. Bypass input supply pin with 10uF or more. The part goes into undervoltage lockout when VIN drops below 2.8V. Undervoltage lockout stops switching and pulls the VC pin low.", 13 RCCOMP "Pin for the External Filter Capacitor for Load Compensation Function. A common 0.1uF ceramic capacitor will suffice for most applications. See Applications Information for further details.", 14 ROCOMP "Input Pin for Optional External Load Compensation Resistor. Use of this pin allows nominal compensation for nonzero output impedance in the power transformer secondary circuit, including secondary winding impedance, output (See Datasheet)", 15 ~{SHDN} (in) "Shutdown. This pin is used to turn off the regulator and reduce VIN input current to a few tens of microamperes. The S\H\D\N\ pin can be left floating when unused.", 16 GND (power) "Ground. These pins connect to the substrate of the die and are separate from the power ground and signal ground. They should connect directly to a good quality ground plane."

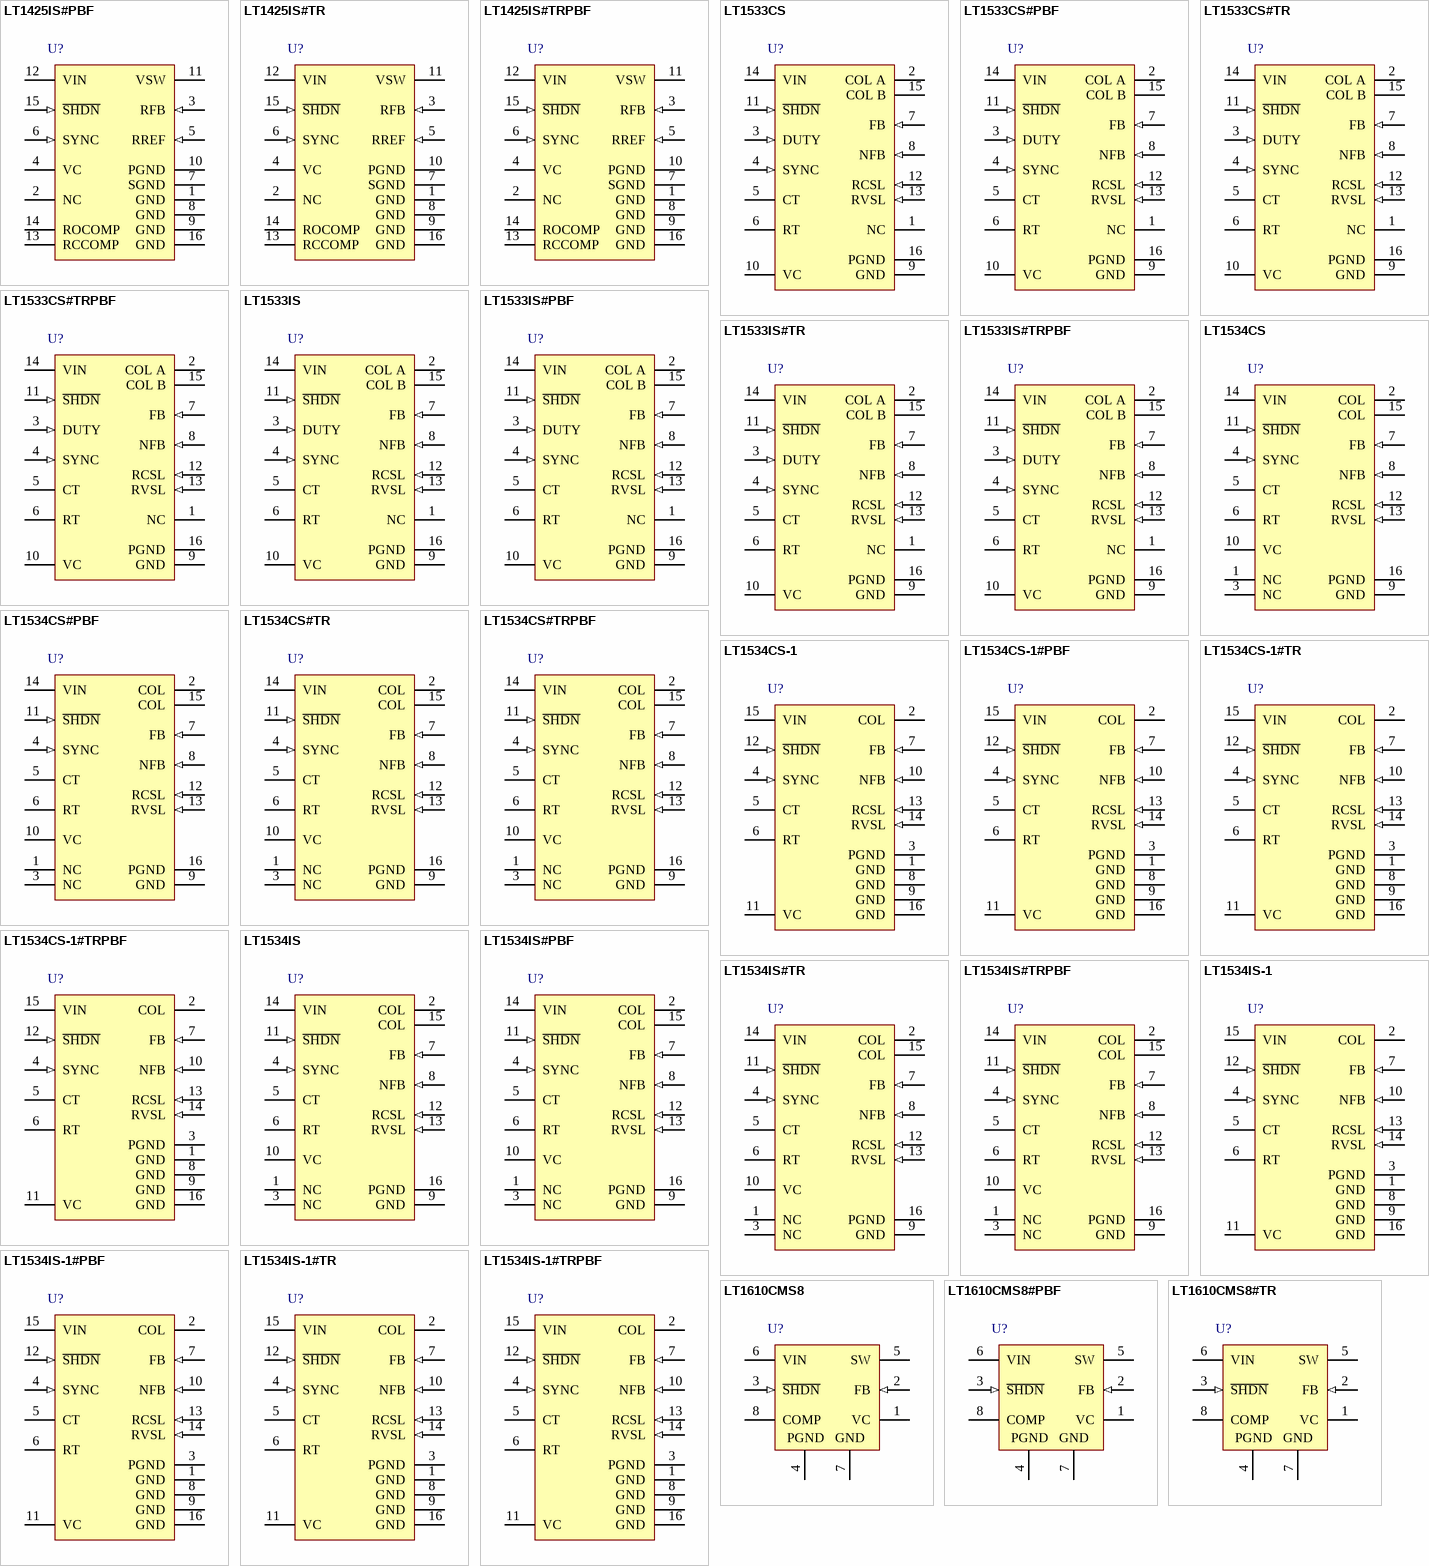
[diagram p15: symbols LT1425IS#PBF to LT1610CMS8#TR]